# EAGLE library part ATMEGA32U4 (library magzor)
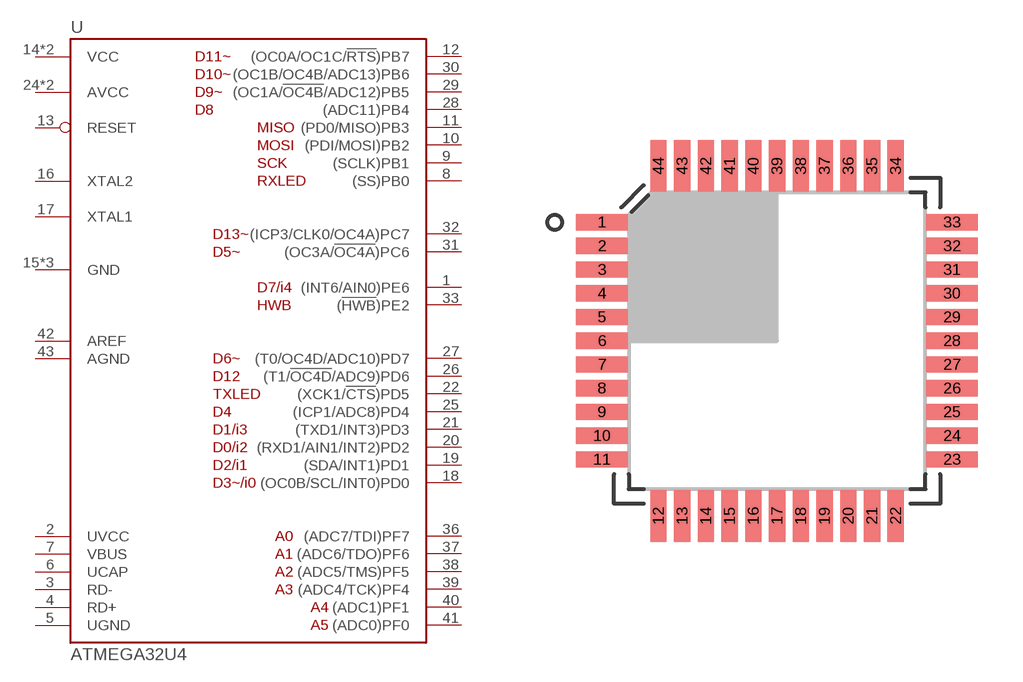
[diagram p20: symbol with the pads of TQFP44; footprint TQFP44]

Designator prefix U

## ATMEGA32U4-AU  [TQFP44]
1  (INT6/AIN0)PE6
2  UVCC  pwr
3  RD-
4  RD+
5  UGND  pwr
6  UCAP  pas
7  VBUS  in
8  (SS)PB0
9  (SCLK)PB1
10  (PDI/MOSI)PB2
11  (PD0/MISO)PB3
12  (OC0A/OC1C/!RTS!)PB7
13  RESET  in
14  VCC  pwr
15  GND  pwr
16  XTAL2
17  XTAL1
18  (OC0B/SCL/INT0)PD0
19  (SDA/INT1)PD1
20  (RXD1/AIN1/INT2)PD2
21  (TXD1/INT3)PD3
22  (XCK1/!CTS!)PD5
23  GND  pwr
24  AVCC  pwr
25  (ICP1/ADC8)PD4
26  (T1/!OC4D!/ADC9)PD6
27  (T0/OC4D/ADC10)PD7
28  (ADC11)PB4
29  (OC1A/!OC4B!/ADC12)PB5
30  (OC1B/OC4B/ADC13)PB6
31  (OC3A/!OC4A!)PC6
32  (ICP3/CLK0/OC4A)PC7
33  (!HWB!)PE2
34  VCC  pwr
35  GND  pwr
36  (ADC7/TDI)PF7
37  (ADC6/TDO)PF6
38  (ADC5/TMS)PF5
39  (ADC4/TCK)PF4
40  (ADC1)PF1
41  (ADC0)PF0
42  AREF  pwr
43  AGND  pwr
44  AVCC  pwr

## Footprint TQFP44 (pad centres in mm)
smd 1.75 x 0.55: 1 -5.9,4; 2 -5.9,3.2; 3 -5.9,2.4; 4 -5.9,1.6; 5 -5.9,0.8; 6 -5.9,0; 7 -5.9,-0.8; 8 -5.9,-1.6; 9 -5.9,-2.4; 10 -5.9,-3.2; 11 -5.9,-4; 23 5.9,-4; 24 5.9,-3.2; 25 5.9,-2.4; 26 5.9,-1.6; 27 5.9,-0.8; 28 5.9,0; 29 5.9,0.8; 30 5.9,1.6; 31 5.9,2.4; 32 5.9,3.2; 33 5.9,4
smd 0.55 x 1.75: 12 -4,-5.9; 13 -3.2,-5.9; 14 -2.4,-5.9; 15 -1.6,-5.9; 16 -0.8,-5.9; 17 0,-5.9; 18 0.8,-5.9; 19 1.6,-5.9; 20 2.4,-5.9; 21 3.2,-5.9; 22 4,-5.9; 34 4,5.9; 35 3.2,5.9; 36 2.4,5.9; 37 1.6,5.9; 38 0.8,5.9; 39 0,5.9; 40 -0.8,5.9; 41 -1.6,5.9; 42 -2.4,5.9; 43 -3.2,5.9; 44 -4,5.9